# EAGLE library part SGM7227 (library SGM7227)
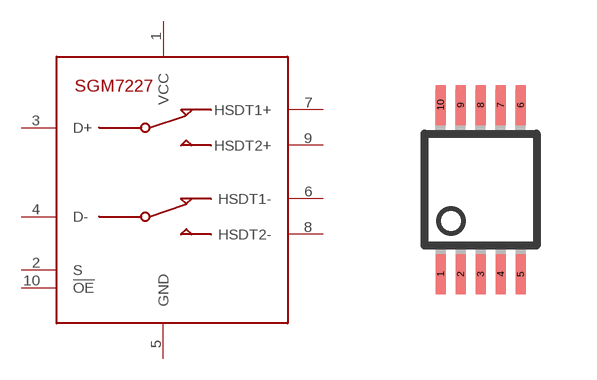
[diagram p0: symbol with the pads of MSOP10; footprint MSOP10]

Designator prefix -

## SGM7227  [MSOP10]
1  VCC  pwr
2  S
3  D+
4  D-
5  GND  pwr
6  HSDT1-
7  HSDT1+
8  HSDT2-
9  HSDT2+
10  !OE

## Footprint MSOP10 (pad centres in mm)
10-Lead Mini Small Outline Package [MSOP] (RM-10) Source: http://www.analog.com/UploadedFiles/Data_Sheets/35641221898805SSM2167_b.pdf COMPLIANT TO JEDEC STANDARDS MO-187BA
smd 0.25 x 1: 1 -1,-2.113; 2 -0.5,-2.113; 3 0,-2.113; 4 0.5,-2.113; 5 1,-2.113; 6 1,2.113; 7 0.5,2.113; 8 0,2.113; 9 -0.5,2.113; 10 -1,2.113